# Altium footprint library PCB - MISC - HFBRx5XX.PCBLIB: 1 footprints
Each footprint in its own frame and in the unit in brackets; x right, y up, seen from the top. Pads: shape width x height; smd on the part's side, far side on the other; paste and mask are expansions set on the pad; w line width, h text height; cw(c..) or ccw(c..) is an arc to the next point about the centre after c.
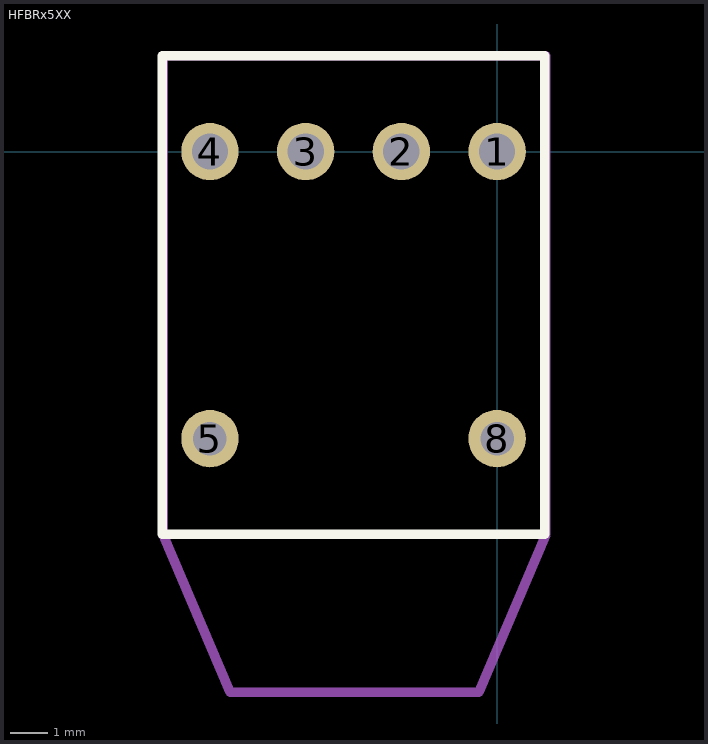
[diagram p0: the footprint, top view; thin cyan lines are the x and y axes]

## HFBRx5XX [mil]
pads (6):
  round 60 hole 38: 1(0,0) 2(-100,0) 3(-200,0) 4(-300,0)
  round 60 hole 35: 5(-300,-300) 8(0,-300)
Top Overlay:
  lines w10: -350,-400 50,-400 50,100 -350,100 -350,-400
Top Assembly:
  lines w10: -349,-400 -279,-565 -19,-565 51,-400 51,100 -349,100 -349,-400
  text ".Designator" at -352,-201 h40
3D body "Avago HFBR-0500ETZ Series.stp": height 343.94, standoff -100.16, extent -349.96,-610 129.96,130.12